# EAGLE library part TLW-122-05-T-D (library SAMTEC-Txx_By_element14_Batch_1)
LOW PROFILE HEADER, DOUBLE ROW, 44 way
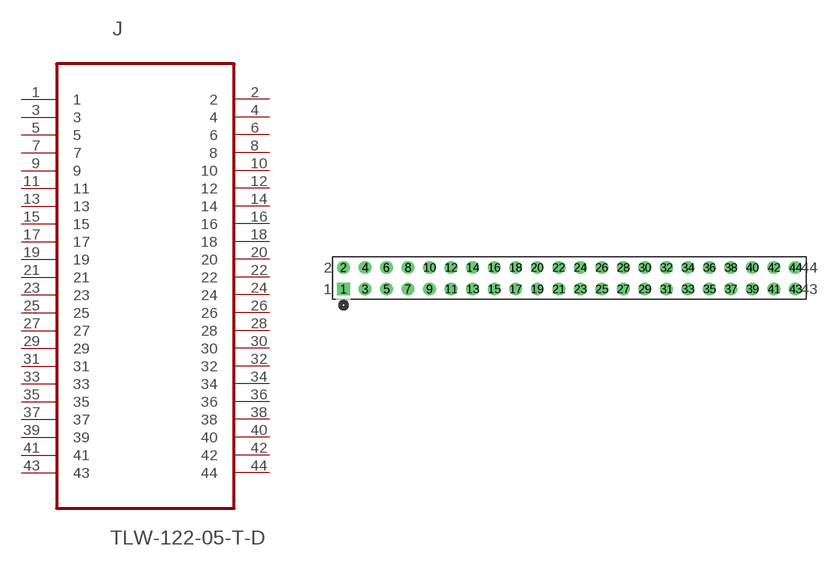
[diagram p267: symbol with the pads of SAMTEC_TLW-122-05-T-D; footprint SAMTEC_TLW-122-05-T-D]

Designator prefix J

## TLW-122-05-T-D (MPN: TLW-122-05-T-D; OC_FARNELL: -; OC_NEWARK: 12P0528; PACKAGE: LOW PROFILE HEADER; SUPPLIER: SAMTEC)  [SAMTEC_TLW-122-05-T-D]
1  1  pas
2  2  pas
3  3  pas
4  4  pas
5  5  pas
6  6  pas
7  7  pas
8  8  pas
9  9  pas
10  10  pas
11  11  pas
12  12  pas
13  13  pas
14  14  pas
15  15  pas
16  16  pas
17  17  pas
18  18  pas
19  19  pas
20  20  pas
21  21  pas
22  22  pas
23  23  pas
24  24  pas
25  25  pas
26  26  pas
27  27  pas
28  28  pas
29  29  pas
30  30  pas
31  31  pas
32  32  pas
33  33  pas
34  34  pas
35  35  pas
36  36  pas
37  37  pas
38  38  pas
39  39  pas
40  40  pas
41  41  pas
42  42  pas
43  43  pas
44  44  pas

## Footprint SAMTEC_TLW-122-05-T-D (pad centres in mm)
drill 1.016 square: 1 -53.34,-2.54
drill 1.016: 2 -53.34,0; 3 -50.8,-2.54; 4 -50.8,0; 5 -48.26,-2.54; 6 -48.26,0; 7 -45.72,-2.54; 8 -45.72,0; 9 -43.18,-2.54; 10 -43.18,0; 11 -40.64,-2.54; 12 -40.64,0; 13 -38.1,-2.54; 14 -38.1,0; 15 -35.56,-2.54; 16 -35.56,0; 17 -33.02,-2.54; 18 -33.02,0; 19 -30.48,-2.54; 20 -30.48,0; 21 -27.94,-2.54; 22 -27.94,0; 23 -25.4,-2.54; 24 -25.4,0; 25 -22.86,-2.54; 26 -22.86,0; 27 -20.32,-2.54; 28 -20.32,0; 29 -17.78,-2.54; 30 -17.78,0; 31 -15.24,-2.54; 32 -15.24,0; 33 -12.7,-2.54; 34 -12.7,0; 35 -10.16,-2.54; 36 -10.16,0; 37 -7.62,-2.54; 38 -7.62,0; 39 -5.08,-2.54; 40 -5.08,0; 41 -2.54,-2.54; 42 -2.54,0; 43 0,-2.54; 44 0,0